# EAGLE library part GB-SRAM-64K (library Gekkio-gameboy)
64K (8K x 8) Asynchronous SRAM used in Game Boys LH5164LN-10 (by Sharp) LH5264N4 (by Sharp) LH5264N4T (by LSI Logic) LH5264TN-L (by Sharp) LH5264TN-TL (by LSI Logic) LH52A64N-TL (by LSI Logic) LH52A64N-PL (by Mosel Vitelic) LH52A64N-YL (by ???)
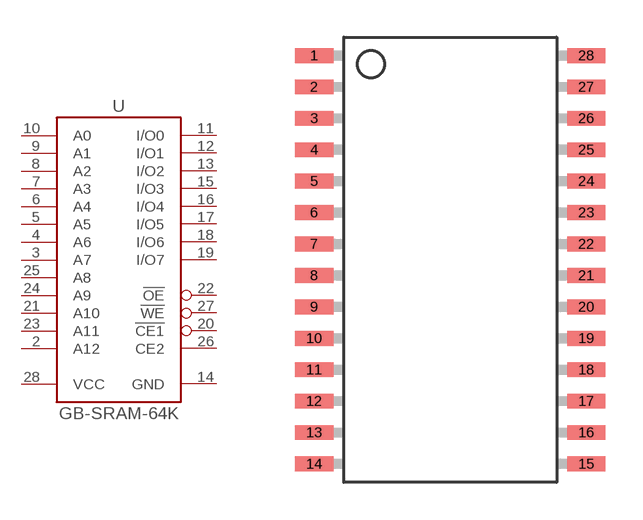
[diagram p2: symbol with the pads of SOP28; footprint SOP28]

Designator prefix U

## GB-SRAM-64K  [SOP28]
2  A12  in
3  A7  in
4  A6  in
5  A5  in
6  A4  in
7  A3  in
8  A2  in
9  A1  in
10  A0  in
11  I/O0  hiz
12  I/O1  hiz
13  I/O2  hiz
14  GND  pwr
15  I/O3  hiz
16  I/O4  hiz
17  I/O5  hiz
18  I/O6  hiz
19  I/O7  hiz
20  !CE1  in
21  A10  in
22  !OE  in
23  A11  in
24  A9  in
25  A8  in
26  CE2  in
27  !WE  in
28  VCC  pwr

## Footprint SOP28 (pad centres in mm)
SOP28 Tested Source: Sharp LH5164A datasheet Soldering footprint: Educated guesswork based on multiple SOP footprint recommendations
smd 1.55 x 0.6: 1 -5.5,8.255; 2 -5.5,6.985; 3 -5.5,5.715; 4 -5.5,4.445; 5 -5.5,3.175; 6 -5.5,1.905; 7 -5.5,0.635; 8 -5.5,-0.635; 9 -5.5,-1.905; 10 -5.5,-3.175; 11 -5.5,-4.445; 12 -5.5,-5.715; 13 -5.5,-6.985; 14 -5.5,-8.255; 15 5.5,-8.255; 16 5.5,-6.985; 17 5.5,-5.715; 18 5.5,-4.445; 19 5.5,-3.175; 20 5.5,-1.905; 21 5.5,-0.635; 22 5.5,0.635; 23 5.5,1.905; 24 5.5,3.175; 25 5.5,4.445; 26 5.5,5.715; 27 5.5,6.985; 28 5.5,8.255